# Altium schematic symbol library LM340MP-5.0.Schlib: 1 symbol
Pins are listed as number, name and electrical type; pins without a type are passive.

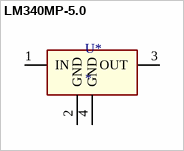
[diagram p0: symbol LM340MP-5.0]

## LM340MP-5.0
designator U*
Fixed 35V 5V 1A SOT-223 Linear Voltage Regulators RoHS; ComponentLink1Description: LCSC - LM340MP-5.0/NOPB; ComponentLink1URL: https://lcsc.com/product-detail/Linear-Voltage-Regulators_Texas-Instruments-LM340MP-5-0-NOPB_C131990.html
footprint LM340 - SOT-223
pins: 1 IN (power), 2 GND (power), 3 OUT (power), 4 GND (power)